# Altium footprint library CAPC3225X285N.PcbLib: 1 footprints
Each footprint in its own frame and in the unit in brackets; x right, y up, seen from the top. Pads: shape width x height; smd on the part's side, far side on the other; paste and mask are expansions set on the pad; w line width, h text height; cw(c..) or ccw(c..) is an arc to the next point about the centre after c.
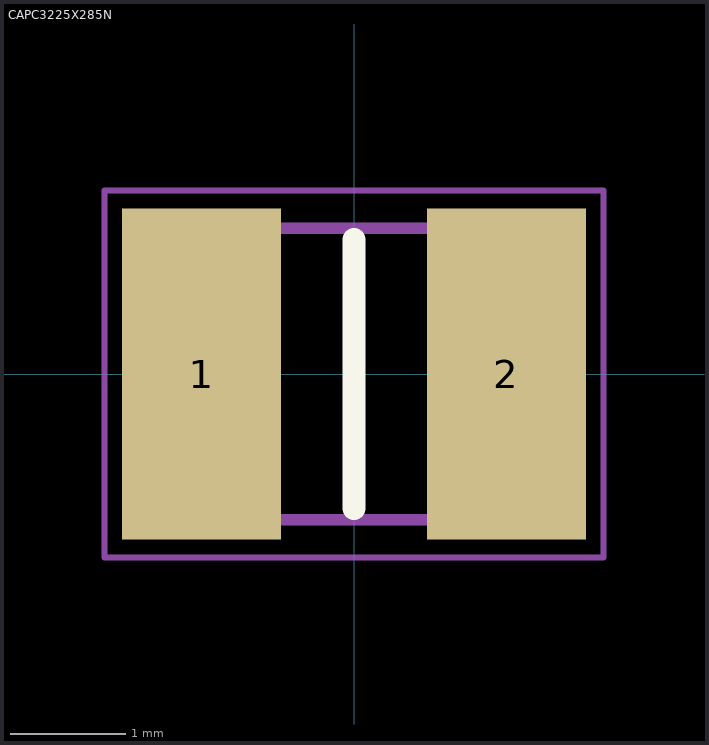
[diagram p0: the footprint, top view; thin cyan lines are the x and y axes]

## CAPC3225X285N [mm]
pads (2):
  rect 1.38x2.87 smd: 1(-1.32,0) 2(1.32,0)
Top Overlay:
  lines w0.2: 0,-1.162 0,1.162
Mechanical 15:
  lines w0.1: -1.6,-1.262 1.6,-1.262 1.6,1.262 -1.6,1.262 -1.6,-1.262
Mechanical 20:
  lines w0.05: -2.16,-1.59 2.16,-1.59 2.16,1.59 -2.16,1.59 -2.16,-1.59